# EAGLE library part TS3A44159 (library Radio Projekt)
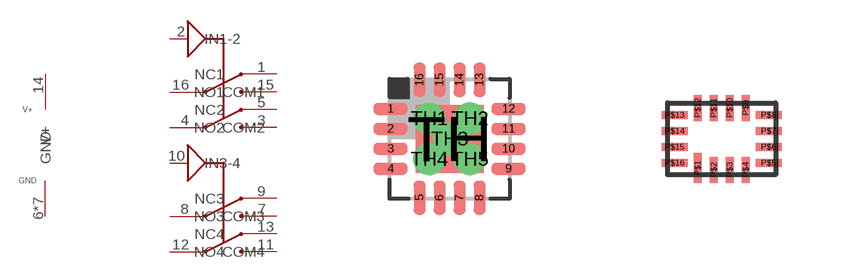
[diagram p8: symbol with the pads of QFN16; footprints QFN16, R-PUQFN-N16]

Designator prefix -; gates G$1=TS3A44159_1 G$2=TS3A44159_2 G$3=SUPPLY

## TS3A44159RGT  [QFN16]
1  G$1:NC1
2  G$1:IN1-2  in
3  G$1:NO2
4  G$1:COM2
5  G$1:NC2
6  G$3:GND  sup
7  G$2:NO3
8  G$2:COM3
9  G$2:NC3
10  G$2:IN3-4  in
11  G$2:NO4
12  G$2:COM4
13  G$2:NC4
14  G$3:V+  sup
15  G$1:NO1
16  G$1:COM1
TH  G$3:GND  sup
TH1  G$3:GND  sup
TH2  G$3:GND  sup
TH3  G$3:GND  sup
TH4  G$3:GND  sup
TH5  G$3:GND  sup

## TS3A44159RSV  [R-PUQFN-N16]
P$1  G$1:NC2
P$2  G$3:GND  sup
P$3  G$2:NO3
P$4  G$2:COM3
P$5  G$2:NC3
P$6  G$2:IN3-4  in
P$7  G$2:NO4
P$8  G$2:COM4
P$9  G$2:NC4
P$10  G$3:V+  sup
P$11  G$1:NO1
P$12  G$1:COM1
P$13  G$1:NC1
P$14  G$1:IN1-2  in
P$15  G$1:NO2
P$16  G$1:COM2

## Footprint QFN16 (pad centres in mm)
RTE (S-PQFP-N16) 3x3 mm Source: www.ti.com .. tpa6132a2 direct path stereo $.65.pdf
smd 0.85 x 0.3: 1 -1.475,0.75; 2 -1.475,0.25; 3 -1.475,-0.25; 4 -1.475,-0.75; 9 1.475,-0.75; 10 1.475,-0.25; 11 1.475,0.25; 12 1.475,0.75
smd 0.3 x 0.85: 5 -0.75,-1.475; 6 -0.25,-1.475; 7 0.25,-1.475; 8 0.75,-1.475; 13 0.75,1.475; 14 0.25,1.475; 15 -0.25,1.475; 16 -0.75,1.475
smd 1.7 x 1.7: TH 0,0
drill 0.3 pad 0.35: TH1 -0.508,0.508; TH2 0.508,0.508; TH3 0,0; TH4 -0.508,-0.508; TH5 0.508,-0.508

## Footprint R-PUQFN-N16 (pad centres in mm)
smd 0.2 x 0.75: P$1 -0.6,-0.735
smd 0.2 x 0.65: P$2 -0.2,-0.775; P$3 0.2,-0.775; P$4 0.6,-0.775; P$9 0.6,0.775; P$10 0.2,0.775; P$11 -0.2,0.775; P$12 -0.6,0.775
smd 0.65 x 0.2: P$5 1.175,-0.6; P$6 1.175,-0.2; P$7 1.175,0.2; P$8 1.175,0.6; P$13 -1.175,0.6; P$14 -1.175,0.2; P$15 -1.175,-0.2; P$16 -1.175,-0.6